# EAGLE library part MC10H102PG (library ON_Semiconductor_By_element14_Batch_1)
Quad 2-Input NOR Gate
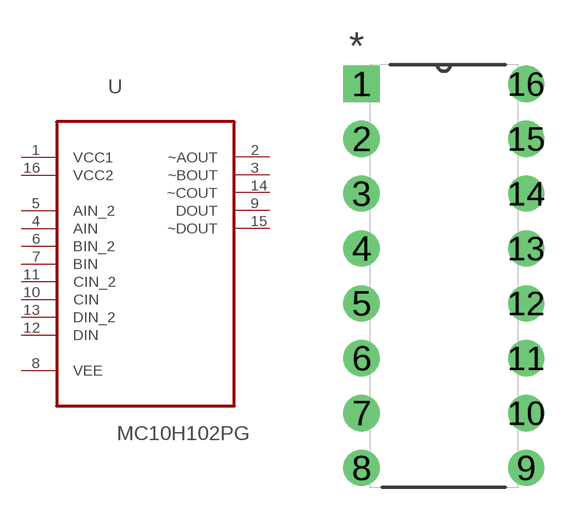
[diagram p179: symbol with the pads of DIP254P762X444-16; footprint DIP254P762X444-16]

Designator prefix U

## MC10H102PG (MPN: MC10H102PG; OC_FARNELL: 1354351; OC_NEWARK: 45J0862; PACKAGE: PDIP-16; SUPPLIER: On semiconductors)  [DIP254P762X444-16]
1  VCC1  pwr
2  ~AOUT  out
3  ~BOUT  out
4  AIN  in
5  AIN_2  in
6  BIN_2  in
7  BIN  in
8  VEE  pwr
9  DOUT  out
10  CIN  in
11  CIN_2  in
12  DIN  in
13  DIN_2  in
14  ~COUT  out
15  ~DOUT  out
16  VCC2  pwr

## Footprint DIP254P762X444-16 (pad centres in mm)
drill 1.118 square: 1 -7.62,17.78
drill 1.118: 2 -7.62,15.24; 3 -7.62,12.7; 4 -7.62,10.16; 5 -7.62,7.62; 6 -7.62,5.08; 7 -7.62,2.54; 8 -7.62,0; 9 0,0; 10 0,2.54; 11 0,5.08; 12 0,7.62; 13 0,10.16; 14 0,12.7; 15 0,15.24; 16 0,17.78